# EAGLE library part STC3100 (library energy-harvesting-pmic)
Battery monitor IC with Coulomb counter/gas gauge The STC3100 monitors the critical parameters of a single-cell Li-Ion battery (voltage, temperature and current) and includes hardware functions to implement a gas gauge for battery charge monitoring, based on a programmable 12- to 14-bit A/D converter. With a typical 30 milliOhms external sense resistor, the battery current can be up to 2.5 A and the accumulator system provides a capacity up to +/-7000 mAh with a resolution of 0.2 mAh. Source: https://www.st.com/en/power-management/stc3100.html
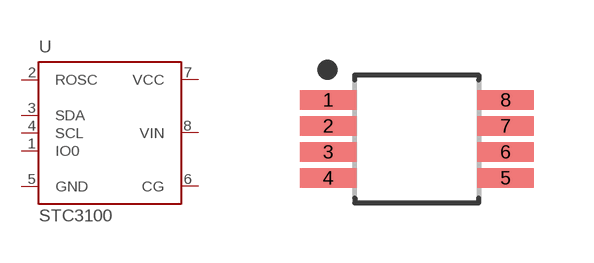
[diagram p1: symbol with the pads of MINISO8; footprint MINISO8]

Designator prefix U

## STC3100IST  [MINISO8]
1  IO0
2  ROSC  pas
3  SDA
4  SCL
5  GND  pwr
6  CG  pas
7  VCC  pwr
8  VIN  pas

## Footprint MINISO8 (pad centres in mm)
8-SOP, 0.65 mm pitch, 4.9 mm span, 3 X 2.95 X 1.1 mm body 8-pin SOP package with 0.65 mm pitch, 4.9 mm span with body size 3 X 2.95 X 1.1 mm
smd 1.424 x 0.492: 1 -2.219,0.975; 2 -2.219,0.325; 3 -2.219,-0.325; 4 -2.219,-0.975; 5 2.219,-0.975; 6 2.219,-0.325; 7 2.219,0.325; 8 2.219,0.975